# Altium integrated library Infineon_Power_MOSFET.IntLib: 1448 symbols (part 7 of 47)
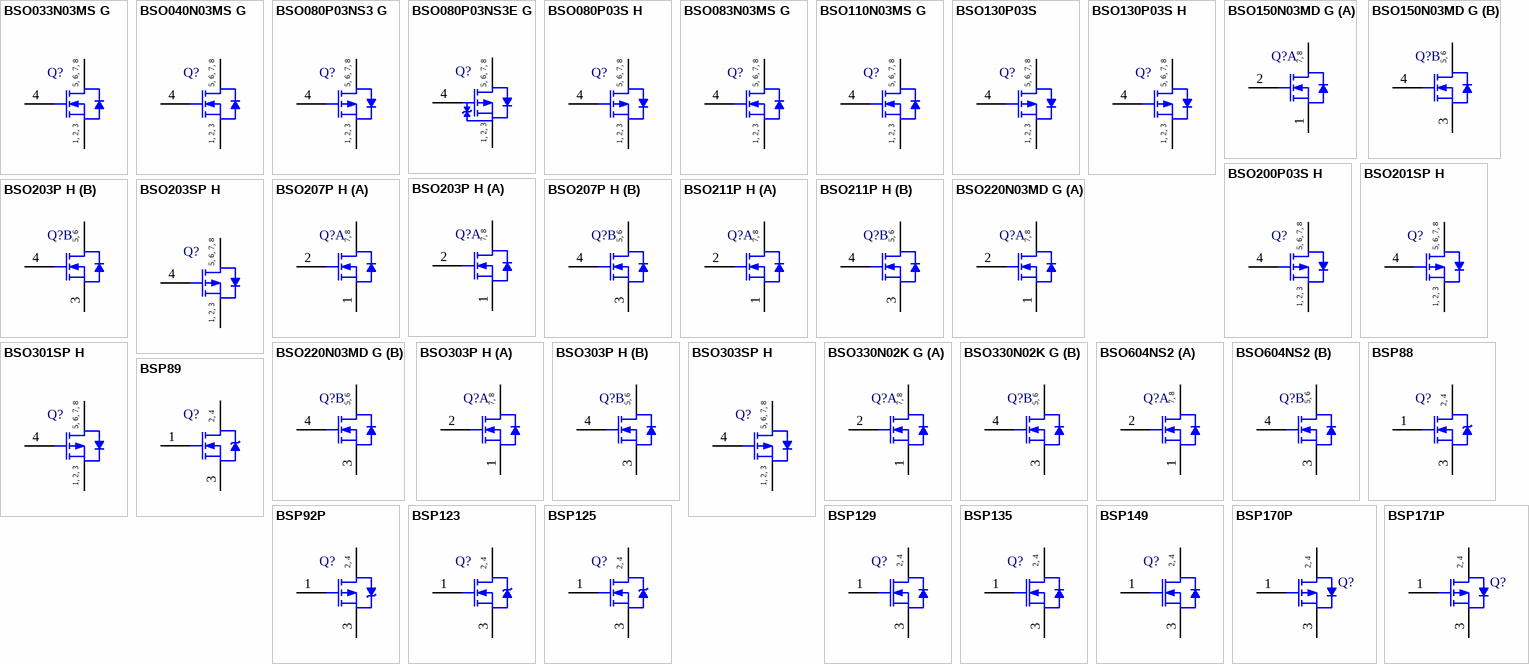
[diagram p43: symbols BSO033N03MS G to BSP171P]

## BSO130P03S H
designator Q?
P-Channel OptiMOS P Small-Signal-Transistor, -30 V VDS, -11.7 A ID, -55 to 150 degC, PG-DSO-8-3, Reel, Green; Manufacturer: Infineon; PartNumber: BSO130P03S H; Green: TRUE; ID (max): -11.7 A; IDpuls (max): -47 A; Pto t (max): 2.5 W; QG: -61 nC; RDS (on) (max): 13 mOhm; Rth: 110 K/W; VDS (max): -30 V; VGS(th) (max): -2.2; VGS(th) (min): -1; DatasheetVersion: Rev. 1.3; PackageReference: PG-DSO-8-3; PackageDescription: 8-Pin Plastic (Green) Dual Small Outline Package, 4.9 x 3.9 mm Body, 1.27 mm Pitch; Supplier 1: Mouser; Supplier Part Number 1: 726-BSO130P03SH; Supplier 2: Digi-Key; Supplier Part Number 2: BSO130P03S HTR-ND; Supplier 3: Digi-Key; Supplier Part Number 3: BSO130P03S HCT-ND; Supplier 4: Digi-Key; Supplier Part Number 4: BSO130P03S HDKR-ND; Halogen-free: TRUE; Packing: Reel; Mounting Technology: Surface Mount; ComponentLink1Description: Manufacturer URL; ComponentLink1URL: http://www.infineon.com/; ComponentLink2Description: Datasheet; ComponentLink2URL: http://www.infineon.com/dgdl/BSO130P03S+H_Rev1.3.pdf?folderId=db3a304314dca38901154a72e3951a65&fileId=db3a3043284aacd8012872a532b15410; ComponentLink3Description: Package Specification; ComponentLink3URL: http://www.infineon.com/cms/packages/SMD_-_Surface_Mounted_Devices/P-PG-DSO/P-PG-DSO-08-03x_-6x_-7x_-8x_-10x_-13x_-15x_-18x_-19x_-20x_-23.html?__locale=en
footprint INF-PG-DSO-8-3_N (SOP, 8-Leads, Body 4.9x3.9mm, Pitch 1.27mm, IPC Medium Density)
footprint INF-PG-DSO-8-3_L (SOP, 8-Leads, Body 4.9x3.9mm, Pitch 1.27mm, IPC High Density)
footprint INF-PG-DSO-8-3_M (SOP, 8-Leads, Body 4.9x3.9mm, Pitch 1.27mm, IPC Low Density)
pins: 1 SOURCE, 2 SOURCE, 3 SOURCE, 4 GATE, 5 DRAIN, 6 DRAIN, 7 DRAIN, 8 DRAIN
text: 5, 6, 7, 8; 1, 2, 3

## BSO150N03MD G
designator Q?
N-Channel OptiMOS 3 M-Series Power-MOSFET, 30 V VDS, 9.3 A ID, -55 to 150 degC, PG-DSO-8-16, Reel, Green; Manufacturer: Infineon; PartNumber: BSO150N03MD G; Green: TRUE; ID (max): 9.3 A; IDpuls (max): 65 A; Polarity: N; Ptot (max): 2 W; QG: 6.1 nC; RDS (on) (max): 15 mOhm; RDS (on) (max) (@4.5V): 18.2 mOhm; Rth: 50 K/W; RthJA (max): 150 K/W; VDS (max): 30 V; VGS(th) (max): 2 V; VGS(th) (min): 1 V; DatasheetVersion: Rev. 1.1; PackageVersion: Mar-07; PackageReference: PG-DSO-8-16; PackageDescription: 8-Pin Plastic (Green) Dual Small Outline Package, 4.9 x 3.9 mm Body, 1.27 mm Pitch; Supplier 1: Mouser; Supplier Part Number 1: 726-BSO150N03MDG; Supplier 2: Digi-Key; Supplier Part Number 2: BSO150N03MD GTR-ND; Supplier 3: Digi-Key; Supplier Part Number 3: BSO150N03MD GCT-ND; Supplier 4: Digi-Key; Supplier Part Number 4: BSO150N03MD GDKR-ND; Halogen-free: TRUE; Packing: Reel; RthJC (max): 50 K/W; Mounting Technology: Surface Mount; ComponentLink1Description: Manufacturer URL; ComponentLink1URL: http://www.infineon.com/; ComponentLink2Description: Datasheet; ComponentLink2URL: http://www.infineon.com/dgdl/BSO150N03MD_rev1.1.pdf?folderId=db3a304313d846880113d91d60c500c4&fileId=db3a30431b0626df011b0d8d11687e4c; ComponentLink3Description: Package Specification; ComponentLink3URL: http://www.infineon.com/dgdl/TLE7259-2GE_DS_rev12.pdf?folderId=db3a3043163797a6011666d32a0c0de1&fileId=db3a3043163797a6011666d4dbb80de2&location=en.Products.Automotive_ICs.Automotive_Transceivers.LIN_Transceivers.DATASHEET.TLE7259-2GE_DS_rev12.pdf
footprint INF-PG-DSO-8-16_N (SOP, 8-Leads, Body 4.9x3.9mm, Pitch 1.27mm, IPC Medium Density)
footprint INF-PG-DSO-8-16_L (SOP, 8-Leads, Body 4.9x3.9mm, Pitch 1.27mm, IPC High Density)
footprint INF-PG-DSO-8-16_M (SOP, 8-Leads, Body 4.9x3.9mm, Pitch 1.27mm, IPC Low Density)
part A pins: 1 S1, 2 G1, 7 D1, 8 D1
part B pins: 3 S2, 4 G2, 5 D2, 6 D2
part A text: 7, 8
part B text: 5, 6

## BSO200P03S H
designator Q?
P-Channel OptiMOS P Power-Transistor, -30 V VDS, -9.1 A ID, -55 to 150 degC, P-DSO-8-3, Reel, Green; Manufacturer: Infineon; PartNumber: BSO200P03S H; Green: TRUE; ID (max): -9.1 A; IDpuls (max): -36.4 A; Pto t (max): 2.36 W; QG: -40 nC; RDS (on) (max): 20 mOhm; Rth: 110 K/W; VDS (max): -30 V; VGS(th) (max): -2.2 V; VGS(th) (min): -1 V; DatasheetVersion: Rev. 1.3; PackageReference: P-DSO-8-3; PackageDescription: 8-Pin Plastic Dual Small Outline Package, 4.9 x 3.9 mm Body, 1.27 mm Pitch; Supplier 1: Mouser; Supplier Part Number 1: 726-BSO200P03SH; Supplier 2: Digi-Key; Supplier Part Number 2: BSO200P03S H-ND; Halogen-free: TRUE; Packing: Reel; Mounting Technology: Surface Mount; ComponentLink1Description: Manufacturer URL; ComponentLink1URL: http://www.infineon.com/; ComponentLink2Description: Datasheet; ComponentLink2URL: http://www.infineon.com/dgdl/BSO200P03S_Rev1.3.pdf?folderId=db3a304314dca38901154a72e3951a65&fileId=db3a3043271faefd0127b42b596d0a5a; ComponentLink3Description: Package Specification; ComponentLink3URL: http://www.infineon.com/cms/packages/SMD_-_Surface_Mounted_Devices/P-PG-DSO/P-PG-DSO-08-03x_-6x_-7x_-8x_-10x_-13x_-15x_-18x_-19x_-20x_-23.html?__locale=en
footprint INF-P-DSO-8-3_N (SOP, 8-Leads, Body 4.9x3.9mm, Pitch 1.27mm, IPC Medium Density)
footprint INF-P-DSO-8-3_L (SOP, 8-Leads, Body 4.9x3.9mm, Pitch 1.27mm, IPC High Density)
footprint INF-P-DSO-8-3_M (SOP, 8-Leads, Body 4.9x3.9mm, Pitch 1.27mm, IPC Low Density)
pins: 1 SOURCE, 2 SOURCE, 3 SOURCE, 4 GATE, 5 DRAIN, 6 DRAIN, 7 DRAIN, 8 DRAIN
text: 5, 6, 7, 8; 1, 2, 3

## BSO201SP H
designator Q?
P-Channel OptiMOS P Power-Transistor, -20 V VDS, -14.9 A ID, -55 to 150 degC, PG-DSO-8-3, Reel, Green; Manufacturer: Infineon; PartNumber: BSO201SP H; Green: TRUE; ID (max): -14.9 A; IDpuls (max): -59.6 A; Pto t (max): 2.5 W; QG: -66 nC; RDS (on) (max): 12.9 mOhm; RDS (on) (max) (@4.5V): 8 mOhm; Rth: 110 K/W; VDS (max): -20 V; VGS(th) (max): -1.2 V; VGS(th) (min): -0.6 V; DatasheetVersion: Rev. 1.32; PackageReference: PG-DSO-8-3; PackageDescription: 8-Pin Plastic (Green) Dual Small Outline Package, 4.9 x 3.9 mm Body, 1.27 mm Pitch; Supplier 1: Mouser; Supplier Part Number 1: 726-BSO201SPH; Supplier 2: Digi-Key; Supplier Part Number 2: BSO201SP HTR-ND; Supplier 3: Digi-Key; Supplier Part Number 3: BSO201SP HCT-ND; Supplier 4: Digi-Key; Supplier Part Number 4: BSO201SP HDKR-ND; Halogen-free: TRUE; Packing: Reel; RDS (on) (max) (@2.5V): 12.9 mOhm; Mounting Technology: Surface Mount; ComponentLink1Description: Manufacturer URL; ComponentLink1URL: http://www.infineon.com/; ComponentLink2Description: Datasheet; ComponentLink2URL: http://www.infineon.com/dgdl/BSO201SP_H_1.32.pdf?folderId=db3a304314dca38901154a7313d21a66&fileId=db3a304325afd6e001261dc80c426058; ComponentLink3Description: Package Specification; ComponentLink3URL: http://www.infineon.com/cms/packages/SMD_-_Surface_Mounted_Devices/P-PG-DSO/P-PG-DSO-08-03x_-6x_-7x_-8x_-10x_-13x_-15x_-18x_-19x_-20x_-23.html?__locale=en
footprint INF-PG-DSO-8-3_N (SOP, 8-Leads, Body 4.9x3.9mm, Pitch 1.27mm, IPC Medium Density)
footprint INF-PG-DSO-8-3_L (SOP, 8-Leads, Body 4.9x3.9mm, Pitch 1.27mm, IPC High Density)
footprint INF-PG-DSO-8-3_M (SOP, 8-Leads, Body 4.9x3.9mm, Pitch 1.27mm, IPC Low Density)
pins: 1 SOURCE, 2 SOURCE, 3 SOURCE, 4 GATE, 5 DRAIN, 6 DRAIN, 7 DRAIN, 8 DRAIN
text: 5, 6, 7, 8; 1, 2, 3

## BSO203P H
designator Q?
P-Channel OptiMOS P Power-Transistor, -20 V VDS, -8.2 A ID, -55 to 150 degC, PG-DSO-8-3, Reel, Green; Manufacturer: Infineon; PartNumber: BSO203P H; Green: TRUE; ID (max): -8.2 A; IDpuls (max): -32.8 A; Pto t (max): 2 W; QG: -26 nC; RDS (on) (max): 34 mOhm; RDS (on) (max) (@4.5V): 21 mOhm; Rth: 110 K/W; VDS (max): -20 V; VGS(th) (max): -1.2 V; VGS(th) (min): -0.6 V; DatasheetVersion: Rev. 1.31; PackageReference: PG-DSO-8-3; PackageDescription: 8-Pin Plastic (Green) Dual Small Outline Package, 4.9 x 3.9 mm Body, 1.27 mm Pitch; Supplier 1: Mouser; Supplier Part Number 1: 726-BSO203PH; Supplier 2: Digi-Key; Supplier Part Number 2: BSO203P HTR-ND; Supplier 3: Digi-Key; Supplier Part Number 3: BSO203P HCT-ND; Supplier 4: Digi-Key; Supplier Part Number 4: BSO203P HDKR-ND; Halogen-free: TRUE; Packing: Reel; RDS (on) (max) (@2.5V): 34 mOhm; Mounting Technology: Surface Mount; ComponentLink1Description: Manufacturer URL; ComponentLink1URL: http://www.infineon.com/; ComponentLink2Description: Datasheet; ComponentLink2URL: http://www.infineon.com/dgdl/BSO203P_H_1.31.pdf?folderId=db3a304314dca38901154a72e3951a65&fileId=db3a3043271faefd0127b46bc7670b11; ComponentLink3Description: Package Specification; ComponentLink3URL: http://www.infineon.com/cms/packages/SMD_-_Surface_Mounted_Devices/P-PG-DSO/P-PG-DSO-08-03x_-6x_-7x_-8x_-10x_-13x_-15x_-18x_-19x_-20x_-23.html?__locale=en
footprint INF-PG-DSO-8-3_N (SOP, 8-Leads, Body 4.9x3.9mm, Pitch 1.27mm, IPC Medium Density)
footprint INF-PG-DSO-8-3_L (SOP, 8-Leads, Body 4.9x3.9mm, Pitch 1.27mm, IPC High Density)
footprint INF-PG-DSO-8-3_M (SOP, 8-Leads, Body 4.9x3.9mm, Pitch 1.27mm, IPC Low Density)
part A pins: 1 S1, 2 G1, 7 D1, 8 D1
part B pins: 3 S2, 4 G2, 5 D2, 6 D2
part A text: 7, 8
part B text: 5, 6

## BSO203SP H
designator Q?
P-Channel OptiMOS P Power-Transistor, -20 V VDS, -8.9 A ID, -55 to 150 degC, PG-DSO-8-3, Reel, Green; Manufacturer: Infineon; PartNumber: BSO203SP H; Green: TRUE; ID (max): -8.9 A; IDpuls (max): -35.6 A; Pto t (max): 2.5 W; QG: -33.6 nC; RDS (on) (max): 34 mOhm; RDS (on) (max) (@4.5V): 21 mOhm; Rth: 110 K/W; VDS (max): -20 V; VGS(th) (max): -1.2 V; VGS(th) (min): -0.6 V; DatasheetVersion: Rev. 1.31; PackageReference: PG-DSO-8-3; PackageDescription: 8-Pin Plastic (Green) Dual Small Outline Package, 4.9 x 3.9 mm Body, 1.27 mm Pitch; Supplier 1: Mouser; Supplier Part Number 1: 726-BSO203SPH; Supplier 2: Digi-Key; Supplier Part Number 2: BSO203SP HTR-ND; Supplier 3: Digi-Key; Supplier Part Number 3: BSO203SP HCT-ND; Supplier 4: Digi-Key; Supplier Part Number 4: BSO203SP HDKR-ND; Halogen-free: TRUE; Packing: Reel; RDS (on) (max) (@2.5V): 34 mOhm; Mounting Technology: Surface Mount; ComponentLink1Description: Manufacturer URL; ComponentLink1URL: http://www.infineon.com/; ComponentLink2Description: Datasheet; ComponentLink2URL: http://www.infineon.com/dgdl/BSO203SP_H_1.31.pdf?folderId=db3a304314dca38901154a72e3951a65&fileId=db3a3043271faefd0127b483bb050b22; ComponentLink3Description: Package Specification; ComponentLink3URL: http://www.infineon.com/cms/packages/SMD_-_Surface_Mounted_Devices/P-PG-DSO/P-PG-DSO-08-03x_-6x_-7x_-8x_-10x_-13x_-15x_-18x_-19x_-20x_-23.html?__locale=en
footprint INF-PG-DSO-8-3_N (SOP, 8-Leads, Body 4.9x3.9mm, Pitch 1.27mm, IPC Medium Density)
footprint INF-PG-DSO-8-3_L (SOP, 8-Leads, Body 4.9x3.9mm, Pitch 1.27mm, IPC High Density)
footprint INF-PG-DSO-8-3_M (SOP, 8-Leads, Body 4.9x3.9mm, Pitch 1.27mm, IPC Low Density)
pins: 1 SOURCE, 2 SOURCE, 3 SOURCE, 4 GATE, 5 DRAIN, 6 DRAIN, 7 DRAIN, 8 DRAIN
text: 5, 6, 7, 8; 1, 2, 3

## BSO207P H
designator Q?
P-Channel OptiMOS P Power-Transistor, -20 V VDS, -5.7 A ID, -55 to 150 degC, PG-DSO-8-3, Reel, Green; Manufacturer: Infineon; PartNumber: BSO207P H; Green: TRUE; ID (max): -5.7 A; IDpuls (max): -22.8 A; Pto t (max): 1.6 W; QG: -12 nC; RDS (on) (max): 70 mOhm; RDS (on) (max) (@4.5V): 45 mOhm; Rth: 110 K/W; VDS (max): -20 V; VGS(th) (max): -1.2 V; VGS(th) (min): -0.6 V; DatasheetVersion: Rev. 1.3; PackageReference: PG-DSO-8-3; PackageDescription: 8-Pin Plastic (Green) Dual Small Outline Package, 4.9 x 3.9 mm Body, 1.27 mm Pitch; Supplier 1: Mouser; Supplier Part Number 1: 726-BSO207PH; Supplier 2: Digi-Key; Supplier Part Number 2: BSO207P HTR-ND; Supplier 3: Digi-Key; Supplier Part Number 3: BSO207P HCT-ND; Supplier 4: Digi-Key; Supplier Part Number 4: BSO207P HDKR-ND; Halogen-free: TRUE; Packing: Reel; RDS (on) (max) (@2.5V): 70 mOhm; Mounting Technology: Surface Mount; ComponentLink1Description: Manufacturer URL; ComponentLink1URL: http://www.infineon.com/; ComponentLink2Description: Datasheet; ComponentLink2URL: http://www.infineon.com/dgdl/BSO207P_H_1+3.pdf?folderId=db3a304314dca38901154a7313d21a66&fileId=db3a304326c2768b0126d138507b685e; ComponentLink3Description: Package Specification; ComponentLink3URL: http://www.infineon.com/cms/packages/SMD_-_Surface_Mounted_Devices/P-PG-DSO/P-PG-DSO-08-03x_-6x_-7x_-8x_-10x_-13x_-15x_-18x_-19x_-20x_-23.html?__locale=en
footprint INF-PG-DSO-8-3_N (SOP, 8-Leads, Body 4.9x3.9mm, Pitch 1.27mm, IPC Medium Density)
footprint INF-PG-DSO-8-3_L (SOP, 8-Leads, Body 4.9x3.9mm, Pitch 1.27mm, IPC High Density)
footprint INF-PG-DSO-8-3_M (SOP, 8-Leads, Body 4.9x3.9mm, Pitch 1.27mm, IPC Low Density)
part A pins: 1 S1, 2 G1, 7 D1, 8 D1
part B pins: 3 S2, 4 G2, 5 D2, 6 D2
part A text: 7, 8
part B text: 5, 6

## BSO211P H
designator Q?
P-Channel OptiMOS P Power-Transistor, -20 V VDS, -4.6 A ID, -55 to 150 degC, PG-DSO-8-3, Reel, Green; Manufacturer: Infineon; PartNumber: BSO211P H; Green: TRUE; ID (max): -4.6 A; IDpuls (max): -18.4 A; Pto t (max): 1.6 W; QG: -8 nC; RDS (on) (max): 110 mOhm; RDS (on) (max) (@4.5V): 67 mOhm; Rth: 110 K/W; VDS (max): -20 V; VGS(th) (max): -1.2 V; VGS(th) (min): -0.6 V; DatasheetVersion: Rev. 1.3; PackageReference: PG-DSO-8-3; PackageDescription: 8-Pin Plastic (Green) Dual Small Outline Package, 4.9 x 3.9 mm Body, 1.27 mm Pitch; Supplier 1: Digi-Key; Supplier Part Number 1: BSO211P H-ND; Halogen-free: TRUE; Packing: Reel; RDS (on) (max) (@2.5V): 110 mOhm; Mounting Technology: Surface Mount; ComponentLink1Description: Manufacturer URL; ComponentLink1URL: http://www.infineon.com/; ComponentLink2Description: Datasheet; ComponentLink2URL: http://www.infineon.com/dgdl/BSO211P+H+1.3.pdf?folderId=db3a304314dca38901154a7313d21a66&fileId=db3a304326c2768b0126d20428e2689c; ComponentLink3Description: Package Specification; ComponentLink3URL: http://www.infineon.com/cms/packages/SMD_-_Surface_Mounted_Devices/P-PG-DSO/P-PG-DSO-08-03x_-6x_-7x_-8x_-10x_-13x_-15x_-18x_-19x_-20x_-23.html?__locale=en
footprint INF-PG-DSO-8-3_N (SOP, 8-Leads, Body 4.9x3.9mm, Pitch 1.27mm, IPC Medium Density)
footprint INF-PG-DSO-8-3_L (SOP, 8-Leads, Body 4.9x3.9mm, Pitch 1.27mm, IPC High Density)
footprint INF-PG-DSO-8-3_M (SOP, 8-Leads, Body 4.9x3.9mm, Pitch 1.27mm, IPC Low Density)
part A pins: 1 S1, 2 G1, 7 D1, 8 D1
part B pins: 3 S2, 4 G2, 5 D2, 6 D2
part A text: 7, 8
part B text: 5, 6

## BSO220N03MD G
designator Q?
N-Channel OptiMOS 3 M-Series Power-MOSFET, 30 V VDS, 7.7 A ID, -55 to 150 degC, PG-DSO-8-16, Reel, Green; Manufacturer: Infineon; PartNumber: BSO220N03MD G; Green: TRUE; ID (max): 7.7 A; IDpuls (max): 54 A; Polarity: N; Ptot (max): 2 W; QG: 7.8 nC; RDS (on) (max): 22 mOhm; RDS (on) (max) (@4.5V): 27 mOhm; Rth: 50 K/W; RthJA (max): 150 K/W; VDS (max): 30 V; VGS(th) (max): 2.1 V; VGS(th) (min): 1 V; DatasheetVersion: Rev. 1.1; PackageVersion: Mar-07; PackageReference: PG-DSO-8-16; PackageDescription: 8-Pin Plastic (Green) Dual Small Outline Package, 4.9 x 3.9 mm Body, 1.27 mm Pitch; Supplier 1: Mouser; Supplier Part Number 1: 726-BSO220N03MDG; Supplier 2: Newark; Supplier Part Number 2: 79X1339; Supplier 3: Farnell; Supplier Part Number 3: 2432714; Supplier 4: Digi-Key; Supplier Part Number 4: BSO220N03MD GTR-ND; Supplier 5: Digi-Key; Supplier Part Number 5: BSO220N03MD GCT-ND; Supplier 6: Digi-Key; Supplier Part Number 6: BSO220N03MD GDKR-ND; Halogen-free: TRUE; Packing: Reel; RthJC (max): 50 K/W; Mounting Technology: Surface Mount; ComponentLink1Description: Manufacturer URL; ComponentLink1URL: http://www.infineon.com/; ComponentLink2Description: Datasheet; ComponentLink2URL: http://www.infineon.com/dgdl/BSO220N03MD_rev1.1.pdf?folderId=db3a304313d846880113d91d60c500c4&fileId=db3a30431b0626df011b0d922ec17e5c; ComponentLink3Description: Package Specification; ComponentLink3URL: http://www.infineon.com/dgdl/TLE7259-2GE_DS_rev12.pdf?folderId=db3a3043163797a6011666d32a0c0de1&fileId=db3a3043163797a6011666d4dbb80de2&location=en.Products.Automotive_ICs.Automotive_Transceivers.LIN_Transceivers.DATASHEET.TLE7259-2GE_DS_rev12.pdf
footprint INF-PG-DSO-8-16_N (SOP, 8-Leads, Body 4.9x3.9mm, Pitch 1.27mm, IPC Medium Density)
footprint INF-PG-DSO-8-16_L (SOP, 8-Leads, Body 4.9x3.9mm, Pitch 1.27mm, IPC High Density)
footprint INF-PG-DSO-8-16_M (SOP, 8-Leads, Body 4.9x3.9mm, Pitch 1.27mm, IPC Low Density)
part A pins: 1 S1, 2 G1, 7 D1, 8 D1
part B pins: 3 S2, 4 G2, 5 D2, 6 D2
part A text: 7, 8
part B text: 5, 6

## BSO301SP H
designator Q?
P-Channel OptiMOS P Power-Transistor, -30 V VDS, -14.9 A ID, -55 to 150 degC, P-DSO-8-3, Reel, Green; Manufacturer: Infineon; PartNumber: BSO301SP H; Green: TRUE; ID (max): -14.9 A; IDpuls (max): -60 A; Pto t (max): 2.5 W; QG: -102 nC; RDS (on) (max): 8 mOhm; RDS (on) (max) (@4.5V): 12 mOhm; Rth: 110 K/W; VDS (max): -30 V; VGS(th) (max): -2 V; VGS(th) (min): -1 V; DatasheetVersion: Rev. 1.32; PackageReference: P-DSO-8-3; PackageDescription: 8-Pin Plastic Dual Small Outline Package, 4.9 x 3.9 mm Body, 1.27 mm Pitch; Supplier 1: Mouser; Supplier Part Number 1: 726-BSO301SPH; Supplier 2: Digi-Key; Supplier Part Number 2: BSO301SP HTR-ND; Supplier 3: Digi-Key; Supplier Part Number 3: BSO301SP HCT-ND; Supplier 4: Digi-Key; Supplier Part Number 4: BSO301SP HDKR-ND; Halogen-free: TRUE; Packing: Reel; Mounting Technology: Surface Mount; ComponentLink1Description: Manufacturer URL; ComponentLink1URL: http://www.infineon.com/; ComponentLink2Description: Datasheet; ComponentLink2URL: http://www.infineon.com/dgdl/BSO301SP_Rev1.32.pdf?folderId=db3a304314dca38901154a7313d21a66&fileId=db3a304326c2768b0126d226cd5d68ac; ComponentLink3Description: Package Specification; ComponentLink3URL: http://www.infineon.com/cms/packages/SMD_-_Surface_Mounted_Devices/P-PG-DSO/P-PG-DSO-08-03x_-6x_-7x_-8x_-10x_-13x_-15x_-18x_-19x_-20x_-23.html?__locale=en
footprint INF-P-DSO-8-3_N (SOP, 8-Leads, Body 4.9x3.9mm, Pitch 1.27mm, IPC Medium Density)
footprint INF-P-DSO-8-3_L (SOP, 8-Leads, Body 4.9x3.9mm, Pitch 1.27mm, IPC High Density)
footprint INF-P-DSO-8-3_M (SOP, 8-Leads, Body 4.9x3.9mm, Pitch 1.27mm, IPC Low Density)
pins: 1 SOURCE, 2 SOURCE, 3 SOURCE, 4 GATE, 5 DRAIN, 6 DRAIN, 7 DRAIN, 8 DRAIN
text: 5, 6, 7, 8; 1, 2, 3

## BSO303P H
designator Q?
P-Channel OptiMOS P Small-Signal-Transistor, -30 V VDS, -8.2 A ID, -55 to 150 degC, PG-DSO-8-3, Reel, Green; Manufacturer: Infineon; PartNumber: BSO303P H; Green: TRUE; ID (max): -8.2 A; IDpuls (max): -32.8 A; Pto t (max): 2 W; QG: -36 nC; RDS (on) (max): 21 mOhm; RDS (on) (max) (@4.5V): 32 mOhm; Rth: 110 K/W; VDS (max): -30 V; VGS(th) (max): -2 V; VGS(th) (min): -1 V; DatasheetVersion: Rev. 1.3; PackageReference: PG-DSO-8-3; PackageDescription: 8-Pin Plastic (Green) Dual Small Outline Package, 4.9 x 3.9 mm Body, 1.27 mm Pitch; Supplier 1: Mouser; Supplier Part Number 1: 726-BSO303PH; Supplier 2: Digi-Key; Supplier Part Number 2: BSO303P HTR-ND; Supplier 3: Digi-Key; Supplier Part Number 3: BSO303P HCT-ND; Supplier 4: Digi-Key; Supplier Part Number 4: BSO303P HDKR-ND; Halogen-free: TRUE; Packing: Reel; Mounting Technology: Surface Mount; ComponentLink1Description: Manufacturer URL; ComponentLink1URL: http://www.infineon.com/; ComponentLink2Description: Datasheet; ComponentLink2URL: http://www.infineon.com/dgdl/BSO303P+H_1.3.pdf?folderId=db3a304314dca38901154a7313d21a66&fileId=db3a304326c2768b0126d1b29d566873; ComponentLink3Description: Package Specification; ComponentLink3URL: http://www.infineon.com/cms/packages/SMD_-_Surface_Mounted_Devices/P-PG-DSO/P-PG-DSO-08-03x_-6x_-7x_-8x_-10x_-13x_-15x_-18x_-19x_-20x_-23.html?__locale=en
footprint INF-PG-DSO-8-3_N (SOP, 8-Leads, Body 4.9x3.9mm, Pitch 1.27mm, IPC Medium Density)
footprint INF-PG-DSO-8-3_L (SOP, 8-Leads, Body 4.9x3.9mm, Pitch 1.27mm, IPC High Density)
footprint INF-PG-DSO-8-3_M (SOP, 8-Leads, Body 4.9x3.9mm, Pitch 1.27mm, IPC Low Density)
part A pins: 1 S1, 2 G1, 7 D1, 8 D1
part B pins: 3 S2, 4 G2, 5 D2, 6 D2
part A text: 7, 8
part B text: 5, 6

## BSO303SP H
designator Q?
P-Channel OptiMOS P Power-Transistor, -30 V VDS, -9.1 A ID, -55 to 150 degC, PG-DSO-8-3, Reel, Green; Manufacturer: Infineon; PartNumber: BSO303SP H; Green: TRUE; ID (max): -9.1 A; IDpuls (max): -36 A; Pto t (max): 2.5 W; QG: -40 nC; RDS (on) (max): 21 mOhm; RDS (on) (max) (@4.5V): 31 mOhm; Rth: 110 K/W; VDS (max): -30 V; VGS(th) (max): -2 V; VGS(th) (min): -1 V; DatasheetVersion: Rev. 1.1; PackageReference: PG-DSO-8-3; PackageDescription: 8-Pin Plastic (Green) Dual Small Outline Package, 4.9 x 3.9 mm Body, 1.27 mm Pitch; Supplier 1: Mouser; Supplier Part Number 1: 726-BSO303SPH; Supplier 2: Digi-Key; Supplier Part Number 2: BSO303SP HTR-ND; Supplier 3: Digi-Key; Supplier Part Number 3: BSO303SP HCT-ND; Supplier 4: Digi-Key; Supplier Part Number 4: BSO303SP HDKR-ND; Halogen-free: TRUE; Packing: Reel; Mounting Technology: Surface Mount; ComponentLink1Description: Manufacturer URL; ComponentLink1URL: http://www.infineon.com/; ComponentLink2Description: Datasheet; ComponentLink2URL: http://www.infineon.com/dgdl/BSO303SP+H+Rev1.1.pdf?folderId=db3a304314dca38901154a7313d21a66&fileId=db3a304326c2768b0126d1e691ec6884; ComponentLink3Description: Package Specification; ComponentLink3URL: http://www.infineon.com/cms/packages/SMD_-_Surface_Mounted_Devices/P-PG-DSO/P-PG-DSO-08-03x_-6x_-7x_-8x_-10x_-13x_-15x_-18x_-19x_-20x_-23.html?__locale=en
footprint INF-PG-DSO-8-3_N (SOP, 8-Leads, Body 4.9x3.9mm, Pitch 1.27mm, IPC Medium Density)
footprint INF-PG-DSO-8-3_L (SOP, 8-Leads, Body 4.9x3.9mm, Pitch 1.27mm, IPC High Density)
footprint INF-PG-DSO-8-3_M (SOP, 8-Leads, Body 4.9x3.9mm, Pitch 1.27mm, IPC Low Density)
pins: 1 SOURCE, 2 SOURCE, 3 SOURCE, 4 GATE, 5 DRAIN, 6 DRAIN, 7 DRAIN, 8 DRAIN
text: 5, 6, 7, 8; 1, 2, 3

## BSO330N02K G
designator Q?
N-Channel OptiMOS 2 Power-Transistor, 20 V VDS, 5.4 A ID, -55 to 150 degC, PG-DSO-8-16, Reel, Green; Manufacturer: Infineon; PartNumber: BSO330N02K G; Green: TRUE; ID (max): 5.4 A; IDpuls (max): 26 A; Polarity: N; Ptot (max): 2.5 W; QG: 3.7 nC; RDS (on) (max): 30 mOhm; Rth: 50 K/W; RthJA (max): 150 K/W; VDS (max): 20 V; VGS(th) (max): 1.2 V; VGS(th) (min): 0.7 V; DatasheetVersion: Rev. 1.02; PackageVersion: Mar-07; PackageReference: PG-DSO-8-16; PackageDescription: 8-Pin Plastic (Green) Dual Small Outline Package, 4.9 x 3.9 mm Body, 1.27 mm Pitch; Supplier 1: Mouser; Supplier Part Number 1: 726-BSO330N02KG; Supplier 2: Newark; Supplier Part Number 2: 60R2527; Supplier 3: Farnell; Supplier Part Number 3: 1775489; Supplier 4: Digi-Key; Supplier Part Number 4: BSO330N02K GINTR-ND; Supplier 5: Digi-Key; Supplier Part Number 5: BSO330N02K GINCT-ND; Supplier 6: Digi-Key; Supplier Part Number 6: BSO330N02K GINDKR-ND; Packing: Reel; RDS (on) (max) (@4.5V): 30 mOhm; Mounting Technology: Surface Mount; ComponentLink1Description: Manufacturer URL; ComponentLink1URL: http://www.infineon.com/; ComponentLink2Description: Datasheet; ComponentLink2URL: http://www.infineon.com/dgdl/BSO330N02K+G+Rev12.pdf?folderId=db3a3043156fd5730115c7d50620107c&fileId=db3a304318a6cd680118a880801f0060; ComponentLink3Description: Package Specification; ComponentLink3URL: http://www.infineon.com/dgdl/TLE7259-2GE_DS_rev12.pdf?folderId=db3a3043163797a6011666d32a0c0de1&fileId=db3a3043163797a6011666d4dbb80de2&location=en.Products.Automotive_ICs.Automotive_Transceivers.LIN_Transceivers.DATASHEET.TLE7259-2GE_DS_rev12.pdf
footprint INF-PG-DSO-8-16_N (SOP, 8-Leads, Body 4.9x3.9mm, Pitch 1.27mm, IPC Medium Density)
footprint INF-PG-DSO-8-16_L (SOP, 8-Leads, Body 4.9x3.9mm, Pitch 1.27mm, IPC High Density)
footprint INF-PG-DSO-8-16_M (SOP, 8-Leads, Body 4.9x3.9mm, Pitch 1.27mm, IPC Low Density)
part A pins: 1 S1, 2 G1, 7 D1, 8 D1
part B pins: 3 S2, 4 G2, 5 D2, 6 D2
part A text: 7, 8
part B text: 5, 6

## BSO604NS2
designator Q?
OptiMOS Power-Transistor, 55 V VDS, 5 A ID, PG-DSO-8-25, Reel, Green; Manufacturer: Infineon; PartNumber: BSO604NS2; Green: TRUE; ID (max): 5 A; IDpuls (max): 20 A; Ptot (max): 2 W; QG: 19.7 nC; RDS (on) (max) (@10V): 35 mOhm; RDS (on) (max) (@4.5V): 44 mOhm; VDS (max): 55 V; VGS(th) (max): 2 V; VGS(th) (min): 1.2 V; DatasheetVersion: Rev. 1.1; PackageVersion: Nov-07; PackageReference: PG-DSO-8-25; PackageDescription: 8-Pin Plastic (Green) Dual Small Outline Package, 4.9 x 3.9 mm Body, 1.27 mm Pitch; Supplier 1: Mouser; Supplier Part Number 1: 726-BSO604NS2; Supplier 2: Digi-Key; Supplier Part Number 2: BSO604NS2TR-ND; Supplier 3: Digi-Key; Supplier Part Number 3: BSO604NS2CT-ND; Supplier 4: Digi-Key; Supplier Part Number 4: BSO604NS2DKR-ND; Halogen-free: TRUE; Packing: Reel; Technology: OptiMOS; Mounting Technology: Surface Mount; ComponentLink1Description: Manufacturer URL; ComponentLink1URL: http://www.infineon.com/; ComponentLink2Description: Datasheet; ComponentLink2URL: http://www.infineon.com/dgdl/BSO604NS2_Green_DS-11.pdf?folderId=db3a304412b407950112b4322c6d574b&fileId=db3a30431936bc4b01194c433efb3fda&location=en.Products.Automotive_ICs.Automotive_MOSFETs.Dual__N-Channel_55V_MOSFETs.DATASHEET.BSO604NS2_Green_DS-11.pdf; ComponentLink3Description: Package Specification; ComponentLink3URL: http://www.infineon.com/dgdl/BTS3410G_DS_13.pdf?folderId=db3a3043163797a6011667aa084c0e01&fileId=db3a3043271faefd01274d02cd525d4a&location=en.Products.Automotive_ICs.Smart_High-_and_Low-Side_Switches.HITFET___TEMPFET__-_Smart_Low-Side_Switches.DATASHEET.BTS3410G_DS_13.pdf
footprint INF-PG-DSO-8-25_N (SOP, 8-Leads, Body 4.9x3.9mm, Pitch 1.27mm, IPC Medium Density)
footprint INF-PG-DSO-8-25_L (SOP, 8-Leads, Body 4.9x3.9mm, Pitch 1.27mm, IPC High Density)
footprint INF-PG-DSO-8-25_M (SOP, 8-Leads, Body 4.9x3.9mm, Pitch 1.27mm, IPC Low Density)
part A pins: 1 SOURCE, 2 GATE, 7 DRAIN, 8 DRAIN
part B pins: 3 SOURCE, 4 GATE, 5 DRAIN, 6 DRAIN
part A text: 7, 8
part B text: 5, 6

## BSP88
designator Q?
N-Channel SIPMOS Small-Signal-Transistor, 240 V VDS, 0.35 A ID, -55 to 150 degC, PG-SOT223 (SC-73), Reel, Green; Manufacturer: Infineon; PartNumber: BSP88; Green: TRUE; ID (max): 0.35 A; IDpuls (max): 1.4 A; Mode: Enhancement; Polarity: N; Ptot (max): 1.8 W; QG: 4.5 nC; RDS (on) (max): 600 mOhm; RDS (on) (max) (@4.5V): 7,500 mOhm; RthJA (max): 115 K/W; VDS (max): 240 V; VGS(th) (max): 1.4 V; VGS(th) (min): 0.6 V; DatasheetVersion: Rev. 2.2; PackageVersion: Apr-08; PackageReference: PG-SOT223 (SC-73); PackageDescription: 4-Pin Small Outline Transistor Package, 6.5 x 3.5 mm Body, 2.3 mm Pitch; Halogen-free: TRUE; Packing: Reel; Mounting Technology: Surface Mount; ComponentLink1Description: Manufacturer URL; ComponentLink1URL: http://www.infineon.com/; ComponentLink2Description: Datasheet; ComponentLink2URL: http://www.infineon.com/dgdl/BSP88_Rev2.2_.pdf?folderId=db3a3043156fd573011622e10b5c1f67&fileId=db3a30433b47825b013b4b657acf0ca8; ComponentLink3Description: Package Specification; ComponentLink3URL: http://www.infineon.com/dgdl/SOT223-Package_Overview.pdf?folderId=db3a30431936bc4b0119530470b03c3d&fileId=db3a30431936bc4b0119531d40b93c5c
footprint INF-PG-SOT223_SC-73_N (SOT223, 4-Leads, Body 6.5x3.5mm, Pitch 2.3mm, IPC Medium Density)
footprint INF-PG-SOT223_SC-73_L (SOT223, 4-Leads, Body 6.5x3.5mm, Pitch 2.3mm, IPC High Density)
footprint INF-PG-SOT223_SC-73_M (SOT223, 4-Leads, Body 6.5x3.5mm, Pitch 2.3mm, IPC Low Density)
pins: 1 GATE, 2 DRAIN, 3 SOURCE, 4 DRAIN
text: 2, 4

## BSP89
designator Q?
N-Channel SIPMOS Small-Signal-Transistor, 240 V VDS, 0.35 A ID, -55 to 150 degC, PG-SOT223 (SC-73), Reel, Green; Manufacturer: Infineon; PartNumber: BSP89; Green: TRUE; ID (max): 0.35 A; IDpuls (max): 1.4 A; Mode: Enhancement; Polarity: N; Ptot (max): 1.8 W; QG: 4.3 nC; RDS (on) (max): 6,000 mOhm; RDS (on) (max) (@4.5V): 7,500 mOhm; RthJA (max): 115 K/W; VDS (max): 240 V; VGS(th) (max): 1.8 V; VGS(th) (min): 0.8 V; DatasheetVersion: Rev. 2.2; PackageVersion: Apr-08; PackageReference: PG-SOT223 (SC-73); PackageDescription: 4-Pin Small Outline Transistor Package, 6.5 x 3.5 mm Body, 2.3 mm Pitch; Supplier 1: Farnell; Supplier Part Number 1: 1214272; Supplier 2: Farnell; Supplier Part Number 2: 1214272RL; Halogen-free: TRUE; Packing: Reel; Mounting Technology: Surface Mount; ComponentLink1Description: Manufacturer URL; ComponentLink1URL: http://www.infineon.com/; ComponentLink2Description: Datasheet; ComponentLink2URL: http://www.infineon.com/dgdl/BSP89_Rev2.2.pdf?folderId=db3a3043156fd573011622e10b5c1f67&fileId=db3a30433b47825b013b4b8a07f90d55; ComponentLink3Description: Package Specification; ComponentLink3URL: http://www.infineon.com/dgdl/SOT223-Package_Overview.pdf?folderId=db3a30431936bc4b0119530470b03c3d&fileId=db3a30431936bc4b0119531d40b93c5c
footprint INF-PG-SOT223_SC-73_N (SOT223, 4-Leads, Body 6.5x3.5mm, Pitch 2.3mm, IPC Medium Density)
footprint INF-PG-SOT223_SC-73_L (SOT223, 4-Leads, Body 6.5x3.5mm, Pitch 2.3mm, IPC High Density)
footprint INF-PG-SOT223_SC-73_M (SOT223, 4-Leads, Body 6.5x3.5mm, Pitch 2.3mm, IPC Low Density)
pins: 1 GATE, 2 DRAIN, 3 SOURCE, 4 DRAIN
text: 2, 4

## BSP92P
designator Q?
P-Channel SIPMOS Small-Signal-Transistor, -250 V VDS, -0.26 A ID, -55 to 150 degC, PG-SOT223 (SC-73), Reel, Green; Manufacturer: Infineon; PartNumber: BSP92P; Green: TRUE; ID (max): -0.26 A; IDpuls (max): -1.04 A; Mode: Enhancement; Polarity: P; Pto t (max): 1.8 W; QG: -4.3 nC; RDS (on) (max): 12,000 mOhm; RDS (on) (max) (@4.5V): 15,000 mOhm; Rth: 115 K/W; VDS (max): -250 V; VGS(th) (max): -2 V; VGS(th) (min): -1 V; DatasheetVersion: Rev. 2.7; PackageVersion: Apr-08; PackageReference: PG-SOT223 (SC-73); PackageDescription: 4-Pin Small Outline Transistor Package, 6.5 x 3.5 mm Body, 2.3 mm Pitch; Supplier 1: Mouser; Supplier Part Number 1: N/A; Halogen-free: TRUE; Packing: Reel; Technology: SIPMOS; Mounting Technology: Surface Mount; ComponentLink1Description: Manufacturer URL; ComponentLink1URL: http://www.infineon.com/; ComponentLink2Description: Datasheet; ComponentLink2URL: http://www.infineon.com/dgdl/BSP92P_Rev2.7.pdf?folderId=db3a304314dca38901154a72e3951a65&fileId=db3a30433b47825b013b5fd12d3d575e; ComponentLink3Description: Package Specification; ComponentLink3URL: http://www.infineon.com/dgdl/SOT223-Package_Overview.pdf?folderId=db3a30431936bc4b0119530470b03c3d&fileId=db3a30431936bc4b0119531d40b93c5c
footprint INF-PG-SOT223_SC-73_N (SOT223, 4-Leads, Body 6.5x3.5mm, Pitch 2.3mm, IPC Medium Density)
footprint INF-PG-SOT223_SC-73_L (SOT223, 4-Leads, Body 6.5x3.5mm, Pitch 2.3mm, IPC High Density)
footprint INF-PG-SOT223_SC-73_M (SOT223, 4-Leads, Body 6.5x3.5mm, Pitch 2.3mm, IPC Low Density)
pins: 1 GATE, 2 DRAIN, 3 SOURCE, 4 DRAIN
text: 2, 4

## BSP123
designator Q?
SIPMOS Small-Signal-Transistor, 100 V VDS, 0.37 A ID, PG-SOT223 (SC-73), Reel, Green; Manufacturer: Infineon; PartNumber: BSP123; Green: TRUE; ID (max): 0.37 A; Polarity: N; RDS (on) (max): 6,000 mOhm; VDS (max): 100 V; DatasheetVersion: Rev. 1.5; PackageVersion: Apr-08; PackageReference: PG-SOT223 (SC-73); PackageDescription: 4-Pin Small Outline Transistor Package, 6.5 x 3.5 mm Body, 2.3 mm Pitch; Supplier 1: Mouser; Supplier Part Number 1: N/A; Halogen-free: FALSE; Packing: Reel; Mounting Technology: Surface Mount; ComponentLink1Description: Manufacturer URL; ComponentLink1URL: http://www.infineon.com/; ComponentLink2Description: Datasheet; ComponentLink2URL: http://www.infineon.com/dgdl/BSP123_Rev1+5.pdf?folderId=db3a304412b407950112b408e8c90004&fileId=db3a304412b407950112b42f29634b0b; ComponentLink3Description: Package Specification; ComponentLink3URL: http://www.infineon.com/dgdl/SOT223-Package_Overview.pdf?folderId=db3a30431936bc4b0119530470b03c3d&fileId=db3a30431936bc4b0119531d40b93c5c
footprint INF-PG-SOT223_SC-73_N (SOT223, 4-Leads, Body 6.5x3.5mm, Pitch 2.3mm, IPC Medium Density)
footprint INF-PG-SOT223_SC-73_L (SOT223, 4-Leads, Body 6.5x3.5mm, Pitch 2.3mm, IPC High Density)
footprint INF-PG-SOT223_SC-73_M (SOT223, 4-Leads, Body 6.5x3.5mm, Pitch 2.3mm, IPC Low Density)
pins: 1 GATE, 2 DRAIN, 3 SOURCE, 4 DRAIN
text: 2, 4

## BSP125
designator Q?
N-Channel SIPMOS Power-Transistor, 600 V VDS, 0.12 A ID, -55 to 150 degC, PG-SOT223 (SC-73), Reel, Green; Manufacturer: Infineon; PartNumber: BSP125; Green: TRUE; ID (max): 0.12 A; IDpuls (max): 0.48 A; Mode: Enhancement; Polarity: N; Ptot (max): 1.8 W; QG: 4.4 nC; RDS (on) (max): 45,000 mOhm; RDS (on) (max) (@4.5V): 60,000 mOhm; RthJA (max): 115 K/W; RthJC (max): 1.8 K/W; VDS (max): 600 V; VGS(th) (max): 2.3 V; VGS(th) (min): 1.3 V; DatasheetVersion: Rev. 2.2; PackageVersion: Apr-08; PackageReference: PG-SOT223 (SC-73); PackageDescription: 4-Pin Small Outline Transistor Package, 6.5 x 3.5 mm Body, 2.3 mm Pitch; Supplier 1: Newark; Supplier Part Number 1: 25M7797; Supplier 2: Farnell; Supplier Part Number 2: 1214278RL; Supplier 3: Farnell; Supplier Part Number 3: 1214278; Halogen-free: TRUE; Packing: Reel; Mounting Technology: Surface Mount; ComponentLink1Description: Manufacturer URL; ComponentLink1URL: http://www.infineon.com/; ComponentLink2Description: Datasheet; ComponentLink2URL: http://www.infineon.com/dgdl/BSP125_Rev.2.2.pdf?folderId=db3a3043156fd573011622e10b5c1f67&fileId=db3a30433b47825b013b50cae9702806; ComponentLink3Description: Package Specification; ComponentLink3URL: http://www.infineon.com/dgdl/SOT223-Package_Overview.pdf?folderId=db3a30431936bc4b0119530470b03c3d&fileId=db3a30431936bc4b0119531d40b93c5c
footprint INF-PG-SOT223_SC-73_N (SOT223, 4-Leads, Body 6.5x3.5mm, Pitch 2.3mm, IPC Medium Density)
footprint INF-PG-SOT223_SC-73_L (SOT223, 4-Leads, Body 6.5x3.5mm, Pitch 2.3mm, IPC High Density)
footprint INF-PG-SOT223_SC-73_M (SOT223, 4-Leads, Body 6.5x3.5mm, Pitch 2.3mm, IPC Low Density)
pins: 1 GATE, 2 DRAIN, 3 SOURCE, 4 DRAIN
text: 2, 4

## BSP129
designator Q?
N-Channel SIPMOS Small-Signal-Transistor, 240 V VDS, 0.35 A ID, -55 to 150degC, PG-SOT223 (SC-73), Reel, Green; Manufacturer: Infineon; PartNumber: BSP129; Green: TRUE; ID(max): 0.35 A; IDpuls(max): 1.4 A; Mode: Depletion; Polarity: N; Ptot(max): 1.8 W; QG: 3.8 nC; RDS (on)(max): 6 Ohm; RthJC(max): 70 K/W; VDS (max): 240 V; VGS(th)(max): -1 V; VGS(th)(min): -2.1 V; DatasheetVersion: Rev. 1.42; PackageVersion: Apr-08; PackageReference: PG-SOT223 (SC-73); PackageDescription: 4-Pin Small Outline Transistor Package, 6.5 x 3.5 mm Body, 2.3 mm Pitch; Supplier 1: Newark; Supplier Part Number 1: 34M5261; Supplier 2: Farnell; Supplier Part Number 2: 1214279RL; Supplier 3: Farnell; Supplier Part Number 3: 1214279; Halogen-free: TRUE; Packing: Reel; Technology: SIPMOS; Mounting Technology: Surface Mount; ComponentLink1Description: Manufacturer URL; ComponentLink1URL: http://www.infineon.com/; ComponentLink2Description: Datasheet; ComponentLink2URL: http://www.infineon.com/dgdl/BSP129_Rev1.42.pdf?folderId=db3a3043156fd573011622e10b5c1f67&fileId=db3a30433c1a8752013c1fc296d2395f; ComponentLink3Description: Package Specification; ComponentLink3URL: http://www.infineon.com/dgdl/SOT223-Package_Overview.pdf?folderId=db3a30431936bc4b0119530470b03c3d&fileId=db3a30431936bc4b0119531d40b93c5c
footprint INF-PG-SOT223_SC-73_N (SOT223, 4-Leads, Body 6.5x3.5mm, Pitch 2.3mm, IPC Medium Density)
footprint INF-PG-SOT223_SC-73_L (SOT223, 4-Leads, Body 6.5x3.5mm, Pitch 2.3mm, IPC High Density)
footprint INF-PG-SOT223_SC-73_M (SOT223, 4-Leads, Body 6.5x3.5mm, Pitch 2.3mm, IPC Low Density)
pins: 1 GATE, 2 DRAIN, 3 SOURCE, 4 DRAIN
text: 2, 4

## BSP135
designator Q?
N-Channel SIPMOS Small-Signal-Transistor, 600 V VDS, 0.12 A ID, -55 to 150 degC, PG-SOT223 (SC-73), Reel, Green; Manufacturer: Infineon; PartNumber: BSP135; Green: TRUE; ID(max): 0.12 A; IDpuls(max): 0.48 A; Mode: Depletion; Polarity: N; Ptot(max): 1.8 W; QG: 3.7 nC; RDS (on)(max): 45 Ohm; RthJC(max): 70 K/W; VDS (max): 600 V; VGS(th)(max): -1 V; VGS(th)(min): -2.1 V; DatasheetVersion: Rev. 1.33; PackageVersion: Apr-08; PackageReference: PG-SOT223 (SC-73); PackageDescription: 4-Pin Small Outline Transistor Package, 6.5 x 3.5 mm Body, 2.3 mm Pitch; Supplier 1: Mouser; Supplier Part Number 1: N/A; Halogen-free: TRUE; Packing: Reel; Technology: SIPMOS; Mounting Technology: Surface Mount; ComponentLink1Description: Manufacturer URL; ComponentLink1URL: http://www.infineon.com/; ComponentLink2Description: Datasheet; ComponentLink2URL: http://www.infineon.com/dgdl/BSP135_Rev1.33.pdf?folderId=db3a3043156fd573011622e10b5c1f67&fileId=db3a30433c1a8752013c1fd4c839399b; ComponentLink3Description: Package Specification; ComponentLink3URL: http://www.infineon.com/dgdl/SOT223-Package_Overview.pdf?folderId=db3a30431936bc4b0119530470b03c3d&fileId=db3a30431936bc4b0119531d40b93c5c
footprint INF-PG-SOT223_SC-73_N (SOT223, 4-Leads, Body 6.5x3.5mm, Pitch 2.3mm, IPC Medium Density)
footprint INF-PG-SOT223_SC-73_L (SOT223, 4-Leads, Body 6.5x3.5mm, Pitch 2.3mm, IPC High Density)
footprint INF-PG-SOT223_SC-73_M (SOT223, 4-Leads, Body 6.5x3.5mm, Pitch 2.3mm, IPC Low Density)
pins: 1 GATE, 2 DRAIN, 3 SOURCE, 4 DRAIN
text: 2, 4

## BSP149
designator Q?
N-Channel SIPMOS Small-Signal-Transistor, 200 V VDS, 0.66 A ID, -55 to 150 degC, PG-SOT223 (SC-73), Reel, Green; Manufacturer: Infineon; PartNumber: BSP149; Green: TRUE; ID(max): 0.66 A; IDpuls(max): 2.6 A; Mode: Depletion; Polarity: N; Ptot(max): 1.8 W; QG: 11 nC; RDS (on)(max): 1.8 Ohm; RthJC(max): 70 K/W; VDS (max): 200 V; VGS(th)(max): -1 V; VGS(th)(min): -2.1 V; DatasheetVersion: Rev. 2.1; PackageVersion: Apr-08; PackageReference: PG-SOT223 (SC-73); PackageDescription: 4-Pin Small Outline Transistor Package, 6.5 x 3.5 mm Body, 2.3 mm Pitch; Supplier 1: Mouser; Supplier Part Number 1: N/A; Supplier 2: Farnell; Supplier Part Number 2: 1214280RL; Supplier 3: Farnell; Supplier Part Number 3: 1214280; Halogen-free: TRUE; Packing: Reel; Technology: SIPMOS; Mounting Technology: Surface Mount; ComponentLink1Description: Manufacturer URL; ComponentLink1URL: http://www.infineon.com/; ComponentLink2Description: Datasheet; ComponentLink2URL: http://www.infineon.com/dgdl/BSP149_Rev2.1.pdf?folderId=db3a3043156fd573011622e10b5c1f67&fileId=db3a30433c1a8752013c1fcbb815397c; ComponentLink3Description: Package Specification; ComponentLink3URL: http://www.infineon.com/dgdl/SOT223-Package_Overview.pdf?folderId=db3a30431936bc4b0119530470b03c3d&fileId=db3a30431936bc4b0119531d40b93c5c
footprint INF-PG-SOT223_SC-73_N (SOT223, 4-Leads, Body 6.5x3.5mm, Pitch 2.3mm, IPC Medium Density)
footprint INF-PG-SOT223_SC-73_L (SOT223, 4-Leads, Body 6.5x3.5mm, Pitch 2.3mm, IPC High Density)
footprint INF-PG-SOT223_SC-73_M (SOT223, 4-Leads, Body 6.5x3.5mm, Pitch 2.3mm, IPC Low Density)
pins: 1 GATE, 2 DRAIN, 3 SOURCE, 4 DRAIN
text: 2, 4

## BSP170P
designator Q?
P-Channel SIPMOS Small-Signal-Transistor, -60 V VDS, -1.9 A ID, -55 to 150 degC, PG-SOT223 (SC-73), Reel, Green; Manufacturer: Infineon; PartNumber: BSP170P; Green: TRUE; ID (max): -1.9 A; IDpuls (max): -7.6 A; Mode: Enhancement; Polarity: P; Pto t (max): 1.8 mW; QG: -12.5 nC; RDS (on) (max): 300 mOhm; Rth: 110 K/W; VDS (max): -60 V; VGS(th) (max): -4 V; VGS(th) (min): -2.1 V; DatasheetVersion: Rev. 2.53; PackageVersion: Apr-08; PackageReference: PG-SOT223 (SC-73); PackageDescription: 4-Pin Small Outline Transistor Package, 6.5 x 3.5 mm Body, 2.3 mm Pitch; Halogen-free: TRUE; Packing: Reel; Technology: SIPMOS; Mounting Technology: Surface Mount; ComponentLink1Description: Manufacturer URL; ComponentLink1URL: http://www.infineon.com/; ComponentLink2Description: Datasheet; ComponentLink2URL: http://www.infineon.com/dgdl/BSP170P_Rev2.53.pdf?folderId=db3a304314dca38901154a72e3951a65&fileId=db3a30433b47825b013b5fdad470576f; ComponentLink3Description: Package Specification; ComponentLink3URL: http://www.infineon.com/dgdl/SOT223-Package_Overview.pdf?folderId=db3a30431936bc4b0119530470b03c3d&fileId=db3a30431936bc4b0119531d40b93c5c
footprint INF-PG-SOT223_SC-73_N (SOT223, 4-Leads, Body 6.5x3.5mm, Pitch 2.3mm, IPC Medium Density)
footprint INF-PG-SOT223_SC-73_L (SOT223, 4-Leads, Body 6.5x3.5mm, Pitch 2.3mm, IPC High Density)
footprint INF-PG-SOT223_SC-73_M (SOT223, 4-Leads, Body 6.5x3.5mm, Pitch 2.3mm, IPC Low Density)
pins: 1 GATE, 2 DRAIN, 3 SOURCE, 4 DRAIN
text: 2, 4

## BSP171P
designator Q?
P-Channel SIPMOS Small-Signal-Transistor, -60 V VDS, -1.9 A ID, -55 to 150 degC, PG-SOT223 (SC-73), Reel, Green; Manufacturer: Infineon; PartNumber: BSP171P; Green: TRUE; ID (max): -1.9 A; IDpuls (max): -7.6 A; Mode: Enhancement; Polarity: P; Pto t (max): 1.8 W; QG: -13 nC; RDS (on) (max): 300 mOhm; Rth: 110 K/W; VDS (max): -60 V; VGS(th) (max): -2 V; VGS(th) (min): -1 V; DatasheetVersion: Rev. 2.7; PackageVersion: Apr-08; PackageReference: PG-SOT223 (SC-73); PackageDescription: 4-Pin Small Outline Transistor Package, 6.5 x 3.5 mm Body, 2.3 mm Pitch; Supplier 1: Farnell; Supplier Part Number 1: 1156441; Supplier 2: Farnell; Supplier Part Number 2: 1156441RL; Halogen-free: TRUE; Packing: Reel; Technology: SIPMOS; Mounting Technology: Surface Mount; ComponentLink1Description: Manufacturer URL; ComponentLink1URL: http://www.infineon.com/; ComponentLink2Description: Datasheet; ComponentLink2URL: http://www.infineon.com/dgdl/BSP171P_Rev2.7.pdf?folderId=db3a304314dca38901154a72e3951a65&fileId=db3a30433b47825b013b6004f59a57fa; ComponentLink3Description: Package Specification; ComponentLink3URL: http://www.infineon.com/dgdl/SOT223-Package_Overview.pdf?folderId=db3a30431936bc4b0119530470b03c3d&fileId=db3a30431936bc4b0119531d40b93c5c
footprint INF-PG-SOT223_SC-73_N (SOT223, 4-Leads, Body 6.5x3.5mm, Pitch 2.3mm, IPC Medium Density)
footprint INF-PG-SOT223_SC-73_L (SOT223, 4-Leads, Body 6.5x3.5mm, Pitch 2.3mm, IPC High Density)
footprint INF-PG-SOT223_SC-73_M (SOT223, 4-Leads, Body 6.5x3.5mm, Pitch 2.3mm, IPC Low Density)
pins: 1 GATE, 2 DRAIN, 3 SOURCE, 4 DRAIN
text: 2, 4

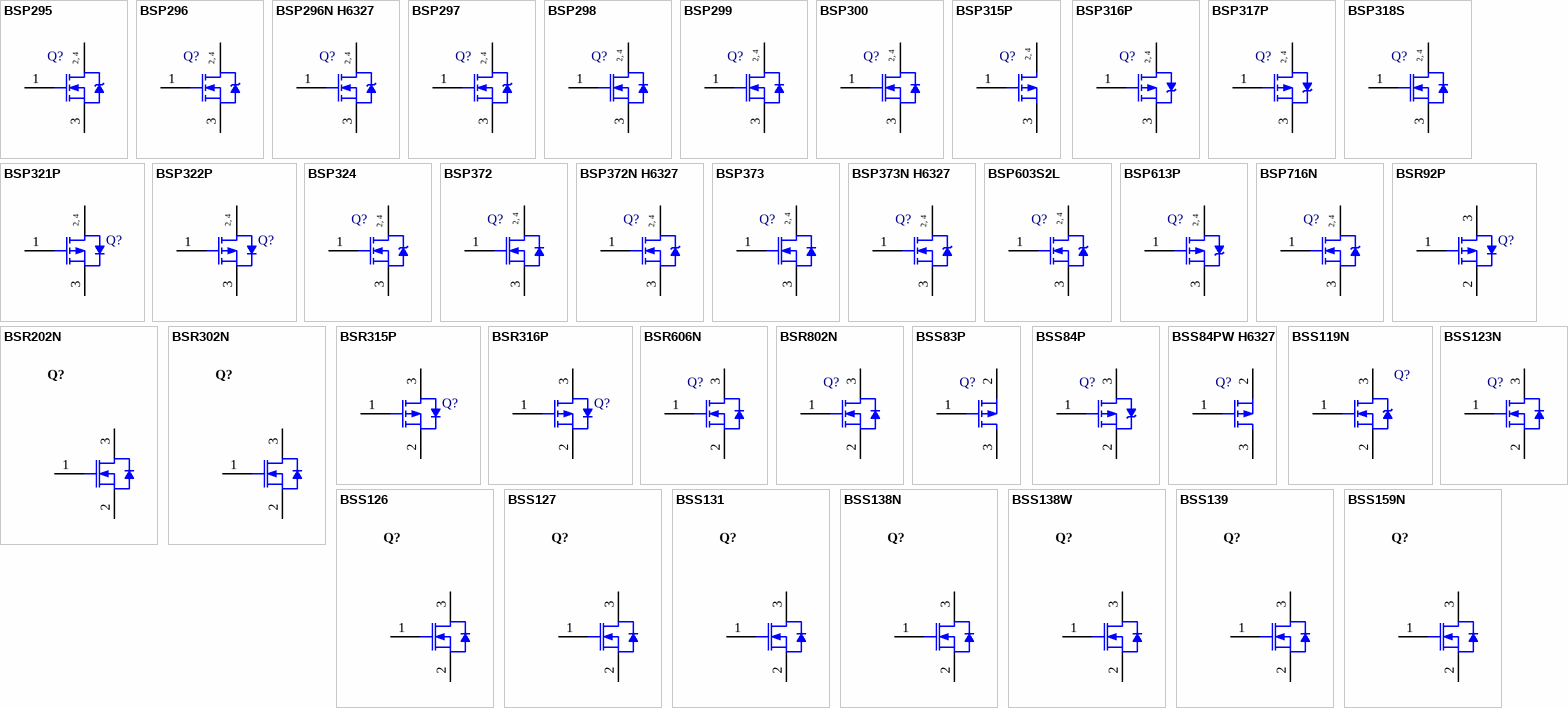
[diagram p6: symbols BSP295 to BSS159N]

## BSP295
designator Q?
N-Channel SIPMOS Small-Signal-Transistor, 60 V VDS, 1.8 A ID, -55 to 150 degC, PG-SOT223 (SC-73), Reel, Green; Manufacturer: Infineon; PartNumber: BSP295; Green: TRUE; ID (max): 1.8 A; IDpuls (max): 7.2 A; Mode: Enhancement; Polarity: N; Ptot (max): 1.8 W; QG: 14 nC; RDS (on) (max): 300 mOhm; RDS (on) (max) (@4.5V): 500 mOhm; VDS (max): 60 V; VGS(th) (max): 2 V; VGS(th) (min): 0.8 V; DatasheetVersion: Rev. 2.3; PackageVersion: Apr-08; PackageReference: PG-SOT223 (SC-73); PackageDescription: 4-Pin Small Outline Transistor Package, 6.5 x 3.5 mm Body, 2.3 mm Pitch; Supplier 1: Mouser; Supplier Part Number 1: N/A; Supplier 2: Newark; Supplier Part Number 2: 25M7801; Supplier 3: Farnell; Supplier Part Number 3: 1214268; Supplier 4: Farnell; Supplier Part Number 4: 1214268RL; Halogen-free: TRUE; Packing: Reel; Mounting Technology: Surface Mount; ComponentLink1Description: Manufacturer URL; ComponentLink1URL: http://www.infineon.com/; ComponentLink2Description: Datasheet; ComponentLink2URL: http://www.infineon.com/dgdl/BSP295_Rev2.3.pdf?folderId=db3a3043156fd573011622e10b5c1f67&fileId=db3a30433b47825b013b5fc5eed1573f; ComponentLink3Description: Package Specification; ComponentLink3URL: http://www.infineon.com/dgdl/SOT223-Package_Overview.pdf?folderId=db3a30431936bc4b0119530470b03c3d&fileId=db3a30431936bc4b0119531d40b93c5c
footprint INF-PG-SOT223_SC-73_N (SOT223, 4-Leads, Body 6.5x3.5mm, Pitch 2.3mm, IPC Medium Density)
footprint INF-PG-SOT223_SC-73_L (SOT223, 4-Leads, Body 6.5x3.5mm, Pitch 2.3mm, IPC High Density)
footprint INF-PG-SOT223_SC-73_M (SOT223, 4-Leads, Body 6.5x3.5mm, Pitch 2.3mm, IPC Low Density)
pins: 1 GATE, 2 DRAIN, 3 SOURCE, 4 DRAIN
text: 2, 4

## BSP296
designator Q?
SIPMOS Small-Signal-Transistor, 100 V VDS, 1.1 A ID, PG-SOT223 (SC-73), Reel, Green; Manufacturer: Infineon; PartNumber: BSP296; Green: TRUE; ID (max): 1.1 A; Polarity: N; RDS (on) (max): 700 mOhm; VDS (max): 100 V; DatasheetVersion: Rev. 2.1; PackageVersion: Apr-08; PackageReference: PG-SOT223 (SC-73); PackageDescription: 4-Pin Small Outline Transistor Package, 6.5 x 3.5 mm Body, 2.3 mm Pitch; Supplier 1: Newark; Supplier Part Number 1: 25M7802; Supplier 2: Farnell; Supplier Part Number 2: 1214269; Supplier 3: Farnell; Supplier Part Number 3: 1214269RL; Halogen-free: FALSE; Packing: Reel; Mounting Technology: Surface Mount; ComponentLink1Description: Manufacturer URL; ComponentLink1URL: http://www.infineon.com/; ComponentLink2Description: Datasheet; ComponentLink2URL: http://www.infineon.com/dgdl/BSP296_Rev2.1.pdf?folderId=db3a304412b407950112b408e8c90004&fileId=db3a304412b407950112b42f4d444b33; ComponentLink3Description: Package Specification; ComponentLink3URL: http://www.infineon.com/dgdl/SOT223-Package_Overview.pdf?folderId=db3a30431936bc4b0119530470b03c3d&fileId=db3a30431936bc4b0119531d40b93c5c
footprint INF-PG-SOT223_SC-73_N (SOT223, 4-Leads, Body 6.5x3.5mm, Pitch 2.3mm, IPC Medium Density)
footprint INF-PG-SOT223_SC-73_L (SOT223, 4-Leads, Body 6.5x3.5mm, Pitch 2.3mm, IPC High Density)
footprint INF-PG-SOT223_SC-73_M (SOT223, 4-Leads, Body 6.5x3.5mm, Pitch 2.3mm, IPC Low Density)
pins: 1 GATE, 2 DRAIN, 3 SOURCE, 4 DRAIN
text: 2, 4

## BSP296N H6327
designator Q?
N-Channel OptiMOS Small-Signal-Transistor, 100 V VDS, 1.2 A ID, -55 to 150 degC, PG-SOT223 (SC-73), Reel, Green; Manufacturer: Infineon; PartNumber: BSP296N H6327; Green: TRUE; ID (max): 1.2 A; IDpuls (max): 4.6 A; Mode: Enhancement; Polarity: N; Ptot (max): 1.8 W; QG: 4.5 nC; RDS (on) (max): 600 mOhm; RDS (on) (max) (@4.5V): 800 mOhm; RthJA (max): 110 K/W; VDS (max): 100 V; VGS(th) (max): 1.8 V; VGS(th) (min): 0.8 V; DatasheetVersion: Rev. 2.0; PackageVersion: Apr-08; PackageReference: PG-SOT223 (SC-73); PackageDescription: 4-Pin Small Outline Transistor Package, 6.5 x 3.5 mm Body, 2.3 mm Pitch; Halogen-free: TRUE; Packing: Reel; Mounting Technology: Surface Mount; ComponentLink1Description: Manufacturer URL; ComponentLink1URL: http://www.infineon.com/; ComponentLink2Description: Datasheet; ComponentLink2URL: http://www.infineon.com/dgdl/BSP296N_rev2+0.pdf?folderId=db3a3043156fd573011622e10b5c1f67&fileId=db3a30433dd58def013dd5af675d001f; ComponentLink3Description: Package Specification; ComponentLink3URL: http://www.infineon.com/dgdl/SOT223-Package_Overview.pdf?folderId=db3a30431936bc4b0119530470b03c3d&fileId=db3a30431936bc4b0119531d40b93c5c
footprint INF-PG-SOT223_SC-73_N (SOT223, 4-Leads, Body 6.5x3.5mm, Pitch 2.3mm, IPC Medium Density)
footprint INF-PG-SOT223_SC-73_L (SOT223, 4-Leads, Body 6.5x3.5mm, Pitch 2.3mm, IPC High Density)
footprint INF-PG-SOT223_SC-73_M (SOT223, 4-Leads, Body 6.5x3.5mm, Pitch 2.3mm, IPC Low Density)
pins: 1 GATE, 2 DRAIN, 3 SOURCE, 4 DRAIN
text: 2, 4

## BSP297
designator Q?
N-Channel SIPMOS Small-Signal-Transistor, 200 V VDS, 0.66 A ID, -55 to 150 degC, PG-SOT223 (SC-73), Reel, Green; Manufacturer: Infineon; PartNumber: BSP297; Green: TRUE; ID (max): 0.66 A; IDpuls (max): 2.64 A; Mode: Enhancement; Polarity: N; Ptot (max): 1.8 W; QG: 12.9 nC; RDS (on) (max): 1,800 mOhm; RDS (on) (max) (@4.5V): 3,000 mOhm; RthJA (max): 115 K/W; VDS (max): 200 V; VGS(th) (max): 1.8 V; VGS(th) (min): 0.8 V; DatasheetVersion: Rev. 2.2; PackageVersion: Apr-08; PackageReference: PG-SOT223 (SC-73); PackageDescription: 4-Pin Small Outline Transistor Package, 6.5 x 3.5 mm Body, 2.3 mm Pitch; Supplier 1: Farnell; Supplier Part Number 1: 1214270RL; Supplier 2: Farnell; Supplier Part Number 2: 1214270; Halogen-free: TRUE; Packing: Reel; Mounting Technology: Surface Mount; ComponentLink1Description: Manufacturer URL; ComponentLink1URL: http://www.infineon.com/; ComponentLink2Description: Datasheet; ComponentLink2URL: http://www.infineon.com/dgdl/BSP297_Rev2.2_.pdf?folderId=db3a3043156fd573011622e10b5c1f67&fileId=db3a30433b47825b013b51250a8528c2; ComponentLink3Description: Package Specification; ComponentLink3URL: http://www.infineon.com/dgdl/SOT223-Package_Overview.pdf?folderId=db3a30431936bc4b0119530470b03c3d&fileId=db3a30431936bc4b0119531d40b93c5c
footprint INF-PG-SOT223_SC-73_N (SOT223, 4-Leads, Body 6.5x3.5mm, Pitch 2.3mm, IPC Medium Density)
footprint INF-PG-SOT223_SC-73_L (SOT223, 4-Leads, Body 6.5x3.5mm, Pitch 2.3mm, IPC High Density)
footprint INF-PG-SOT223_SC-73_M (SOT223, 4-Leads, Body 6.5x3.5mm, Pitch 2.3mm, IPC Low Density)
pins: 1 GATE, 2 DRAIN, 3 SOURCE, 4 DRAIN
text: 2, 4

## BSP298
designator Q?
N-Channel SIPMOS Small-Signal-Transistor, 400 V VDS, 0.5 A ID, -55 to 150 degC, PG-SOT223 (SC-73), Reel, Green; Manufacturer: Infineon; PartNumber: BSP298; Green: TRUE; ID (max): 0.5 A; IDpuls (max): 2 A; Mode: Enhancement; Polarity: N; Ptot (max): 1.8 W; RDS (on) (max): 3,000 mOhm; RthJA (max): 70 K/W; VDS (max): 400 V; VGS(th) (max): 4 V; VGS(th) (min): 2.1 V; DatasheetVersion: Rev. 2.6; PackageVersion: Apr-08; PackageReference: PG-SOT223 (SC-73); PackageDescription: 4-Pin Small Outline Transistor Package, 6.5 x 3.5 mm Body, 2.3 mm Pitch; Supplier 1: Newark; Supplier Part Number 1: 25M7803; Supplier 2: Farnell; Supplier Part Number 2: 1214281RL; Supplier 3: Farnell; Supplier Part Number 3: 1214281; Halogen-free: TRUE; Packing: Reel; Mounting Technology: Surface Mount; ComponentLink1Description: Manufacturer URL; ComponentLink1URL: http://www.infineon.com/; ComponentLink2Description: Datasheet; ComponentLink2URL: http://www.infineon.com/dgdl/Bsp298_Rev2.6_.pdf?folderId=db3a3043156fd573011622e10b5c1f67&fileId=db3a30433b47825b013b4c05f65f0f29; ComponentLink3Description: Package Specification; ComponentLink3URL: http://www.infineon.com/dgdl/SOT223-Package_Overview.pdf?folderId=db3a30431936bc4b0119530470b03c3d&fileId=db3a30431936bc4b0119531d40b93c5c
footprint INF-PG-SOT223_SC-73_N (SOT223, 4-Leads, Body 6.5x3.5mm, Pitch 2.3mm, IPC Medium Density)
footprint INF-PG-SOT223_SC-73_L (SOT223, 4-Leads, Body 6.5x3.5mm, Pitch 2.3mm, IPC High Density)
footprint INF-PG-SOT223_SC-73_M (SOT223, 4-Leads, Body 6.5x3.5mm, Pitch 2.3mm, IPC Low Density)
pins: 1 GATE, 2 DRAIN, 3 SOURCE, 4 DRAIN
text: 2, 4